# EAGLE library part ADACP2104 (library Me433lib)
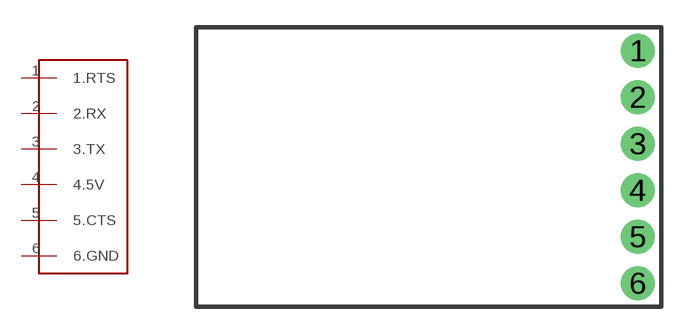
[diagram p13: symbol with the pads of 1X06V2; footprint 1X06V2]

Designator prefix -

## ADACP2104  [1X06V2]
1  1.RTS
2  2.RX
3  3.TX
4  4.5V
5  5.CTS
6  6.GND

## Footprint 1X06V2 (pad centres in mm)
Plated Through Hole - 6 Pin Specifications: Pin count:6 Pin pitch:0.1" Example device(s): CONN_06
drill 1.016 pad 1.88: 1 0,0; 2 0,-2.54; 3 0,-5.08; 4 0,-7.62; 5 0,-10.16; 6 0,-12.7